# Altium footprint library PCB - LEADLESS - DFN - ONSEMI XDFN6 1.2x1.2 0.40P CASE 711AT C.PcbLib: 1 footprints
Each footprint in its own frame and in the unit in brackets; x right, y up, seen from the top. Pads: shape width x height; smd on the part's side, far side on the other; paste and mask are expansions set on the pad; w line width, h text height; cw(c..) or ccw(c..) is an arc to the next point about the centre after c.
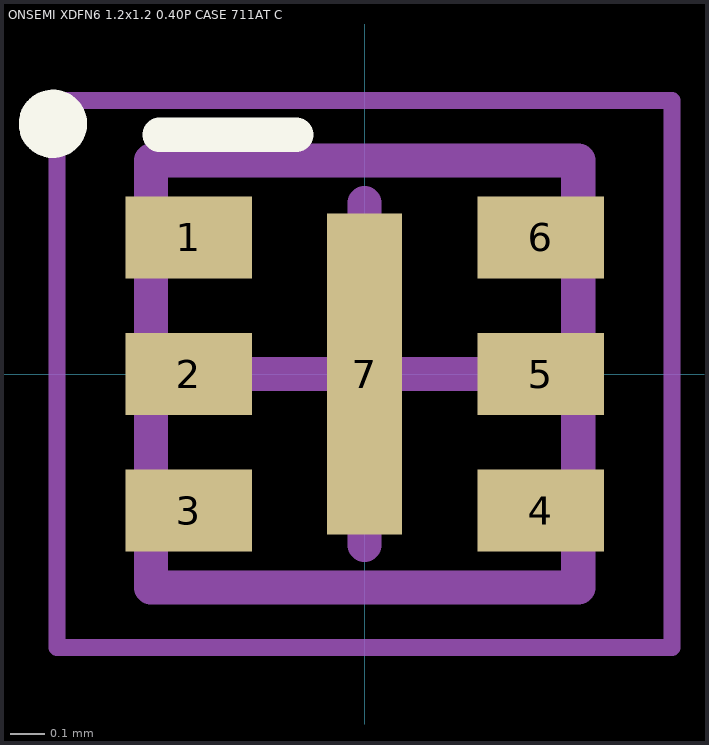
[diagram p0: the footprint, top view; thin cyan lines are the x and y axes]

## ONSEMI XDFN6 1.2x1.2 0.40P CASE 711AT C [mm] "XDFN6, 6-Leads, Body 1.20x1.20mm, Pitch 0.40mm, Thermal Pad 0.94x0.22mm"
height 0.45
pads (7):
  rect 0.37x0.24 smd: 1(-0.515,0.4) 2(-0.515,0) 3(-0.515,-0.4) 4(0.515,-0.4) 5(0.515,0) 6(0.515,0.4)
  rect 0.22x0.94 smd: 7(0,0)
Top Overlay:
  circle w0.1: c-0.912,0.732 r0.05
  lines w0.1: -0.6,0.7 -0.2,0.7
Mechanical 13:
  lines w0.1: -0.625,-0.625 -0.625,0.625 0.625,0.625 0.625,-0.625 -0.625,-0.625
Mechanical 15:
  lines w0.05: -0.9,-0.8 -0.9,0.8 0.9,0.8 0.9,-0.8 -0.9,-0.8
  lines w0.1: -0.5,0 0.5,0 ; 0,-0.5 0,0.5
3D body "ONSEMI XDFN6 1.2x1.2 0.40P CASE 711AT C.step": height 0.45, standoff 0, extent -0.626,-0.625 0.626,0.625